# Altium footprint library 4_Pin_ScrewTerm.PcbLib: 1 footprints
Each footprint in its own frame and in the unit in brackets; x right, y up, seen from the top. Pads: shape width x height; smd on the part's side, far side on the other; paste and mask are expansions set on the pad; w line width, h text height; cw(c..) or ccw(c..) is an arc to the next point about the centre after c.
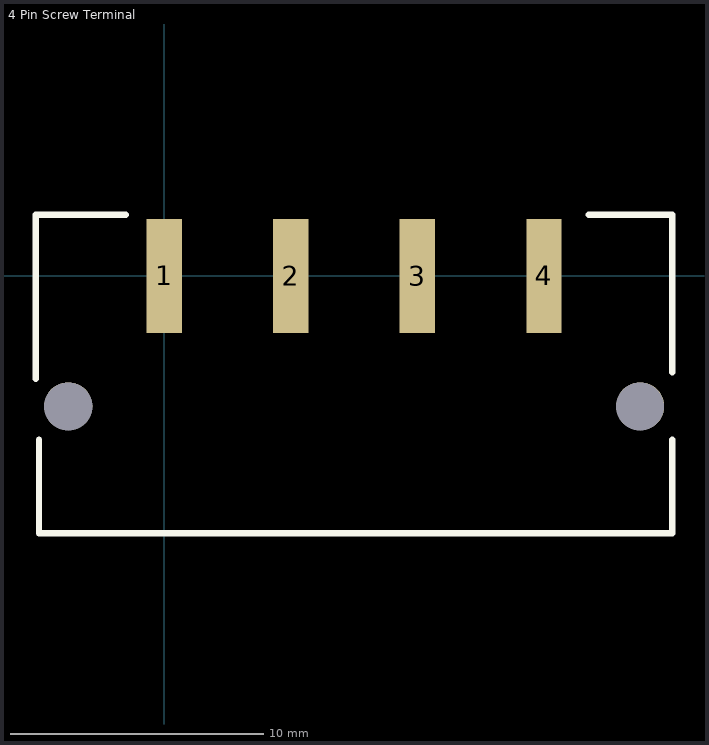
[diagram p0: the footprint, top view; thin cyan lines are the x and y axes]

## 4 Pin Screw Terminal [mm]
pads (6):
  rect 1.4x4.5 smd: 1(0,0) 2(5,0) 3(10,0) 4(15,0)
  round 1.9 hole 1.9: ""(-3.8,-5.15) ""(18.8,-5.15)
Top Overlay:
  lines w0.254: -5.08,-4.064 -5.08,2.413 -1.524,2.413 ; -4.953,-6.477 -4.953,-10.16 20.066,-10.16 20.066,-6.477 ; 16.764,2.413 20.066,2.413 20.066,-3.81
3D body "691709710304 (rev1).stp": height 10.95, standoff -1.75, extent -4.569,-9.712 19.431,1.838